# Altium footprint library MB525.PcbLib: 47 footprints (part 2 of 3)
Each footprint in its own frame and in the unit in brackets; x right, y up, seen from the top. Pads: shape width x height; smd on the part's side, far side on the other; paste and mask are expansions set on the pad; w line width, h text height; cw(c..) or ccw(c..) is an arc to the next point about the centre after c.
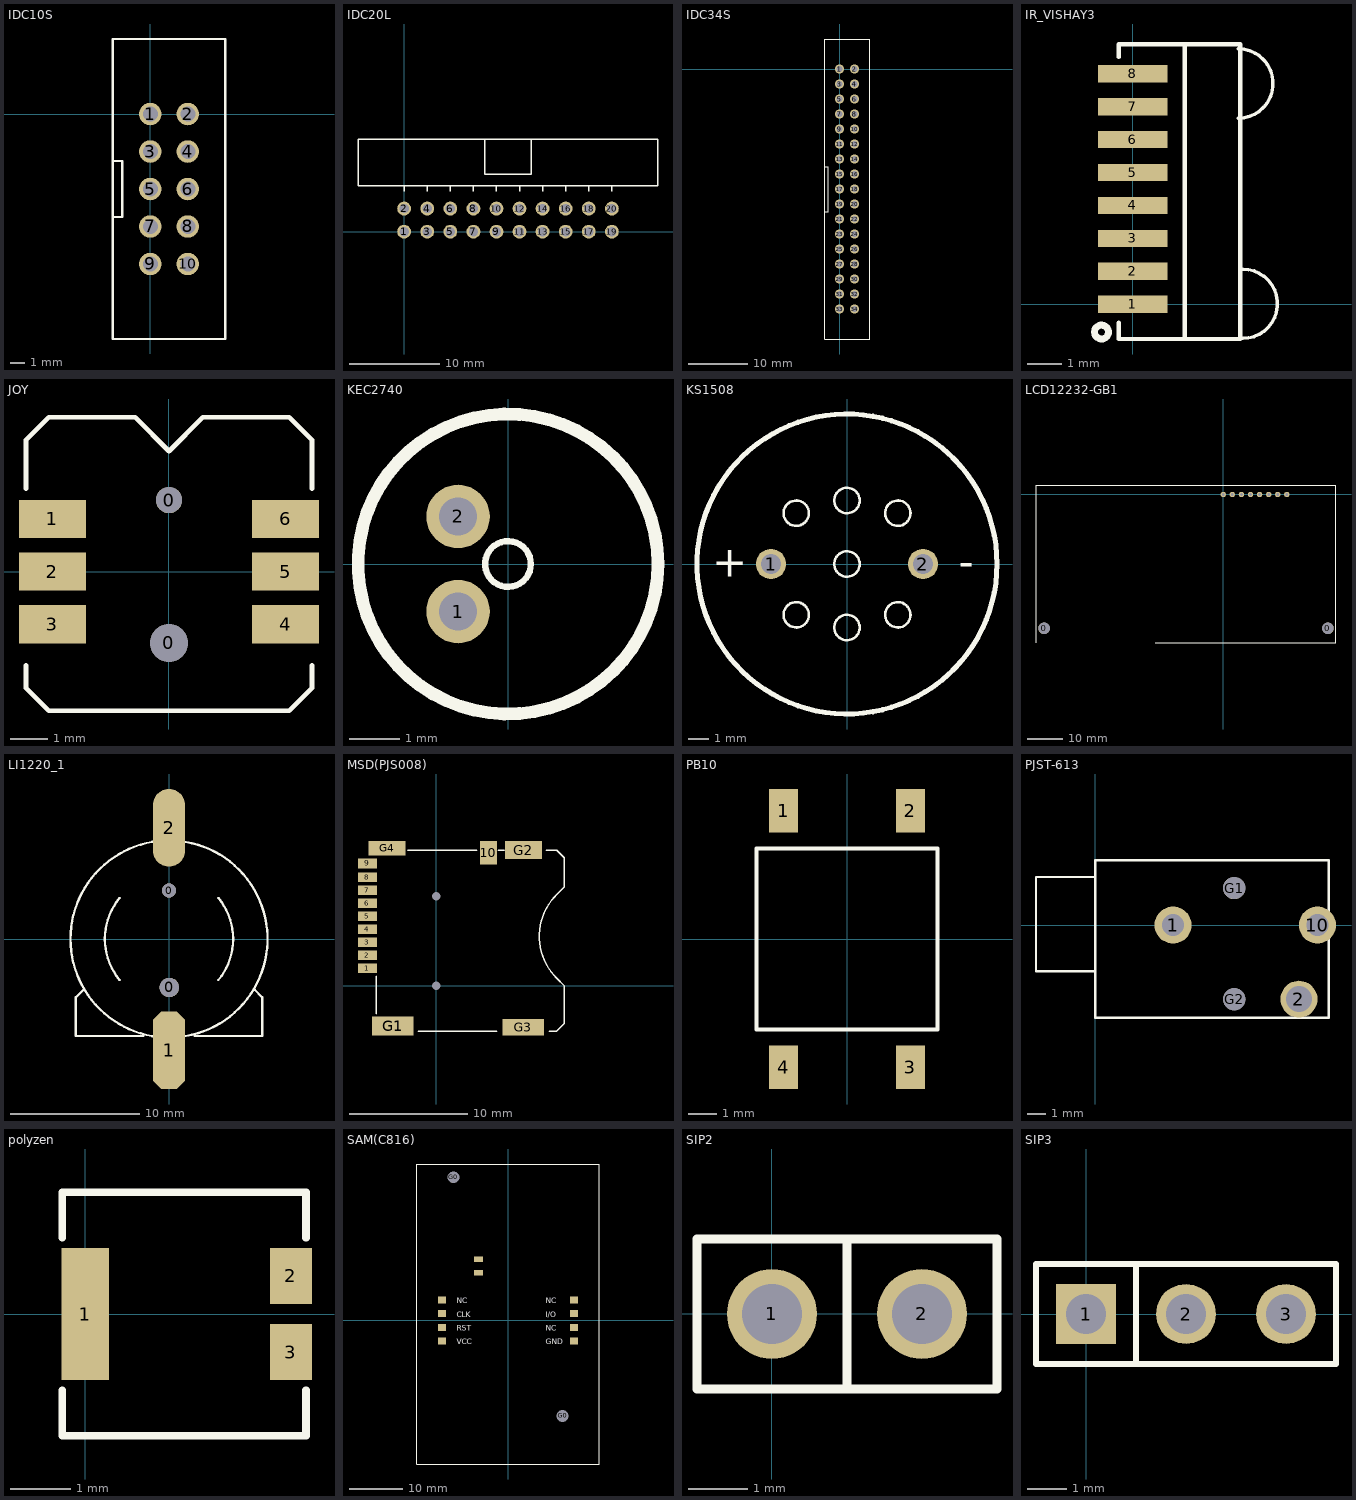
[diagram p1: the footprints below, top view; thin cyan lines are the x and y axes]

## IDC10S [mil]
pads (10):
  round 60 hole 40: 1(0,0) 2(100,0) 3(0,-100) 4(100,-100) 5(0,-200) 6(100,-200) 7(0,-300) 8(100,-300) 9(0,-400) 10(100,-400)
Top Overlay:
  lines w6: -100,-275 -75,-275 -75,-125 -100,-125 ; -100,-600 -100,200 200,200 200,-600 -100,-600

## IDC20L [mil]
pads (20):
  round 60 hole 40: 1(0,0) 2(0,100) 3(100,0) 4(100,100) 5(200,0) 6(200,100) 7(300,0) 8(300,100) 9(400,0) 10(400,100) 11(500,0) 12(500,100) 13(600,0) 14(600,100) 15(700,0) 16(700,100) 17(800,0) 18(800,100) 19(900,0) 20(900,100)
Top Overlay:
  lines w6: 0,175 0,200 ; 100,175 100,200 ; 200,175 200,200 ; 300,175 300,200 ; 350,400 350,250 550,250 550,400 ; 400,175 400,200 ; 500,175 500,200 ; 600,175 600,200 ; 700,175 700,200 ; 800,175 800,200 ; 900,175 900,200 ; -200,200 1100,200 1100,400 -200,400 -200,200

## IDC34S [mil]
pads (34):
  round 60 hole 40: 1(0,0) 2(100,0) 3(0,-100) 4(100,-100) 5(0,-200) 6(100,-200) 7(0,-300) 8(100,-300) 9(0,-400) 10(100,-400) 11(0,-500) 12(100,-500) 13(0,-600) 14(100,-600) 15(0,-700) 16(100,-700) 17(0,-800) 18(100,-800) 19(0,-900) 20(100,-900) 21(0,-1000) 22(100,-1000) 23(0,-1100) 24(100,-1100) 25(0,-1200) 26(100,-1200) 27(0,-1300) 28(100,-1300) 29(0,-1400) 30(100,-1400) 31(0,-1500) 32(100,-1500) 33(0,-1600) 34(100,-1600)
Top Overlay:
  lines w5: -100,-950 -75,-950 -75,-650 -100,-650
  lines w6: -100,-1800 200,-1800 200,200 -100,200 -100,-650 -100,-950 -100,-1800

## IR_VISHAY3 [mm]
pads (8):
  rect 2x0.5 smd: 1(0,0) 2(0,0.95) 3(0,1.9) 4(0,2.85) 5(0,3.8) 6(0,4.75) 7(0,5.7) 8(0,6.65)
Top Overlay:
  circle w0.2: c-0.9,-0.8 r0.2
  lines w0.1: 3.048,5.366 ccw(c3.048,6.366) 3.048,7.366 ; 3.175,-0.984 ccw(c3.175,0.016) 3.175,1.016
  lines w0.127: -0.4,-0.527 -0.4,-1 3.1,-1 3.1,7.5 -0.4,7.5 -0.4,7.131 ; 1.5,-1 1.5,7.5

## JOY [mm]
pads (8):
  round 1 hole 1 unplated: 0(0,-1.9)
  round 0.7 hole 0.7 unplated: 0(0,1.9)
  rect 1.778x1.016 smd: 1(-3.1,1.4) 2(-3.1,0) 3(-3.1,-1.4) 4(3.1,-1.4) 5(3.1,0) 6(3.1,1.4)
Top Overlay:
  lines w0.127: -3.8,-2.5 -3.8,-3.1 -3.2,-3.7 2.6,-3.7 3.2,-3.7 3.8,-3.1 3.8,-2.5 ; -3.8,2.2 -3.8,3.5 -3.2,4.1 -0.9,4.1 0,3.2 0.9,4.1 3.2,4.1 3.8,3.5 3.8,2.2

## KEC2740 [mm]
pads (2):
  round 1.27 hole 0.762: 1(-1,-0.95) 2(-1,0.95)
Top Overlay:
  circle w0.254: c0,0 r3
  circle w0.127: c0,0 r0.458

## KS1508 [mil]
pads (2):
  round 60 hole 40: 1(-149.61,0) 2(149.61,0)
Top Overlay:
  circle w5: c-100,100 r25
  circle w5: c100,100 r25
  circle w5: c-100,-100 r25
  circle w5: c100,-100 r25
  circle w5: c0,-125 r25
  circle w5: c0,125 r25
  circle w10: c0,0 r295.28
  circle w5: c0,0 r25
  text "+" at -265,-25 h60
  text "-" at 220,-25 h60

## LCD12232-GB1 [mil]
pads (10):
  round 125.98 hole 125.98 unplated: 0(-1975.98,-1475) 0(1153.94,-1475)
  round 60 hole 30: 1(0,0) 2(100,0) 3(200,0) 4(300,0) 5(400,0) 6(500,0) 7(600,0) 8(700,0)
Top Overlay:
  lines w5: -2064.57,-1632.28 -2064.57,100 1242.52,100 1242.52,-1632.28 -750.98,-1632.28

## LI1220_1 [mm]
pads (4):
  round 1.1 hole 1.1 unplated: 0(0,3.75)
  round 1.5 hole 1.5 unplated: 0(0.025,-3.75)
  oct 2.5x6 smd: 1(0,-8.6)
  oval 2.5x6 smd: 2(0,8.6)
Top Overlay:
  lines w0.178: -6.6,-3.9 -7.2,-4.5 -7.2,-7.5 -2,-7.5 ; -3.815,-3.169 cw(c0,0) -3.812,3.172 ; -0.833,-7.574 cw(c0,0) -7.62,0 cw(c0,0) -0.833,7.574 ; 0.833,-7.574 ccw(c0,0) 0.833,7.574 ; 2,-7.5 7.2,-7.5 7.2,-4.5 6.625,-3.925 ; 3.81,-3.175 ccw(c0,0) 3.812,3.172

## MSD(PJS008) [mm]
pads (16):
  round 0.6 hole 0.7: 0(0,0) 0(0,7.55)
  rect 1.6x0.8 smd: 1(-5.8,1.475) 2(-5.8,2.575) 3(-5.8,3.675) 4(-5.8,4.775) 5(-5.8,5.875) 6(-5.8,6.975) 7(-5.8,8.075) 8(-5.8,9.175)
  rect 1.6x0.85 smd: 9(-5.8,10.325)
  rect 1.4x1.95 smd: 10(4.4,11.225)
  rect 3.5x1.6 smd: G1(-3.65,-3.4)
  rect 3.1x1.5 smd: G2(7.35,11.45)
  rect 3.5x1.4 smd: G3(7.35,-3.5)
  rect 3.1x1.2 smd: G4(-4.15,11.6)
Top Overlay:
  lines w0.127: -5.075,-2.35 -5.075,-1.925 -5.075,0.8 ; -2.413,11.43 3.429,11.43 ; -1.524,-3.81 5.08,-3.81 ; 5.207,11.43 5.715,11.43 ; 9.271,11.43 10.16,11.43 10.795,10.795 10.795,8.341 10.16,7.706 ccw(c13.696,4.171) 10.16,0.635 10.8,-0.005 10.8,-2.535 10.795,-2.54 10.795,-3.175 10.16,-3.81 9.525,-3.81

## PB10 [mil]
pads (4):
  rect 40x60 smd: 1(-87.5,177.17) 2(87.5,177.17) 3(87.5,-177.17) 4(-87.5,-177.17)
Top Overlay:
  lines w6: -125,-125 -125,125 125,125 125,-125 -125,-125

## PJST-613 [mm]
pads (5):
  round 2 hole 1.2: 1(4.2,0) 10(12,0)
  round 2 hole 1.4: 2(11,-4)
  round 1.2 hole 1.2 unplated: G1(7.5,2) G2(7.5,-4)
Top Overlay:
  lines w0.127: 0,-2.5 -3.2,-2.5 -3.2,2.6 0,2.6 ; 0,-5 12.6,-5 12.6,3.5 0,3.5 0,-5

## polyzen [mm]
pads (3):
  rect 0.8x2.21 smd: 1(0,0)
  rect 0.7x0.94 smd: 2(3.429,0.635) 3(3.429,-0.635)
Top Overlay:
  lines w0.127: -0.381,-1.27 -0.381,-2.032 3.683,-2.032 3.683,-1.27 ; -0.381,1.27 -0.381,2.032 3.683,2.032 3.683,1.27

## SAM(C816) [mm]
pads (12):
  rect 1.5x1.3 smd: 1(-12.3,-3.81) 2(-12.3,-1.27) 3(-12.3,1.27) 4(-12.3,3.81) 5(12.3,-3.81) 6(12.3,-1.27) 7(12.3,1.27) 8(12.3,3.81)
  rect 1.75x1 smd: 17(-5.5,8.89) 18(-5.5,11.43)
  round 2 hole 2.2 unplated: G0(-10.16,26.67) G0(10.16,-17.78)
Top Overlay:
  lines w0.127: -17,-26.73 17,-26.73 17,29.143 -17,29.143 -17,-26.73
  text "NC" at 6.985,3.175 h1.02
  text "CLK" at -9.525,0.635 h1.02
  text "VCC" at -9.525,-4.445 h1.02
  text "NC" at -9.525,3.175 h1.02
  text "RST" at -9.525,-1.905 h1.02
  text "GND" at 6.985,-4.445 h1.02
  text "NC" at 6.985,-1.905 h1.02
  text "I/O" at 6.985,0.635 h1.02

## SIP2 [mil]
pads (2):
  round 60 hole 40: 1(0,0) 2(100,0)
Top Overlay:
  lines w6: 50.04,-50.04 50.04,49.96 ; -49.96,-50.04 150.04,-50.04 150.04,49.96 -49.96,49.96 -49.96,-50.04

## SIP3 [mil]
pads (3):
  rect 60x60 hole 40: 1(0,0)
  round 60 hole 40: 2(100,0) 3(200,0)
Top Overlay:
  lines w6: 50,-50 50,50 ; -50,-50 250,-50 250,50 -50,50 -50,-50